# Altium footprint library CRHT_Connectors_PCB.PcbLib: 25 footprints (part 2 of 2)
Each footprint in its own frame and in the unit in brackets; x right, y up, seen from the top. Pads: shape width x height; smd on the part's side, far side on the other; paste and mask are expansions set on the pad; w line width, h text height; cw(c..) or ccw(c..) is an arc to the next point about the centre after c.
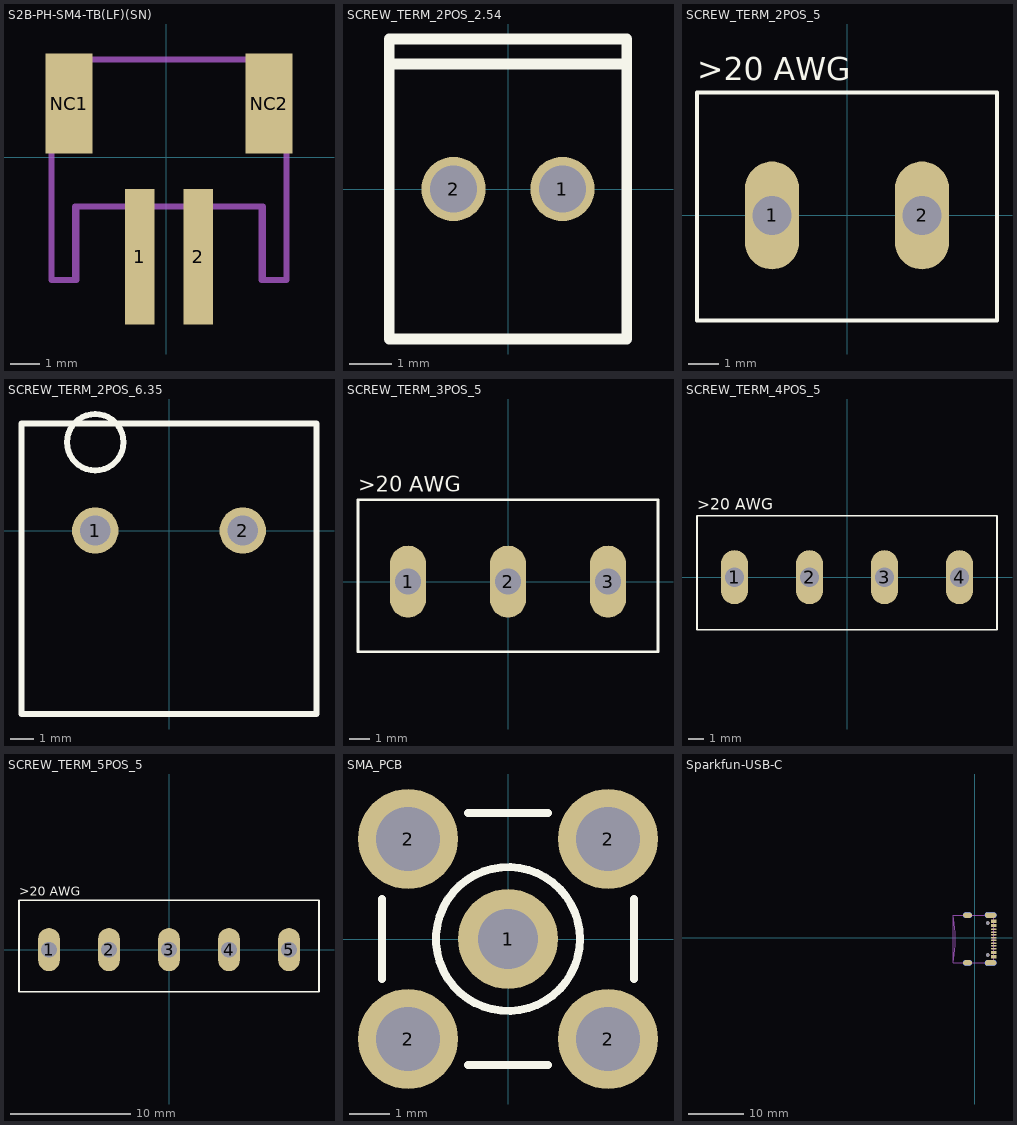
[diagram p1: the footprints below, top view; thin cyan lines are the x and y axes]

## S2B-PH-SM4-TB(LF)(SN) [mm] "JST 2 Position PH series SMT Connector"
pads (4):
  rect 1x4.6 smd: 1(-0.906,-3.386) 2(1.094,-3.386)
  rect 1.6x3.4 smd: NC1(-3.306,1.814) NC2(3.494,1.814)
Mechanical 3:
  lines w0.203: -3.906,-4.186 -3.106,-4.186 -3.106,-1.686 3.294,-1.686 3.294,-4.186 4.094,-4.186 4.094,3.314 -3.906,3.314 -3.906,-4.186
Mechanical 7:
  lines w0.203: -3.906,-0.186 -3.906,-4.186 -3.056,-4.186 -3.056,-1.686 -1.656,-1.686 ; -2.156,3.314 2.344,3.314 ; 1.844,-1.686 3.244,-1.686 3.244,-4.186 4.094,-4.186 4.094,-0.186

## SCREW_TERM_2POS_2.54 [mm] "TERM BLOCK 2POS SIDE ENT 2.54MM - 282834-2"
height 10
pads (2):
  round 1.5 hole 1.1: 1(1.27,0) 2(-1.27,0)
Top Overlay:
  lines w0.254: -2.77,2.921 2.77,2.921 ; -2.77,-3.5 -2.77,3.5 2.77,3.5 2.77,-3.5 -2.77,-3.5
3D body "TERM_2.STEP": height 10, standoff -3.4, extent -2.77,-3.25 2.77,3.25

## SCREW_TERM_2POS_5 [mm]
height 10
pads (2):
  oval 1.8x3.6 hole 1.3: 1(-2.5,0) 2(2.5,0)
Top Overlay:
  lines w0.127: -5,-3.5 -5,4.1 5,4.1 5,-3.5 -5,-3.5
  text ">20 AWG" at -5,4.5 h0.76
3D body: height 12.5, standoff 0, extent -5,-3.5 5,4
3D body: height 0.55, standoff 0, extent -0.5,3.5 -0.5,3.5

## SCREW_TERM_2POS_6.35 [mm] "6.35mm Pitch Screw Terminal"
height 21.5
pads (2):
  round 2 / inner round 4 / far side round 4 hole 1.3: 1(-3.175,0) 2(3.175,0)
Top Overlay:
  circle w0.254: c-3.175,3.8 r1.217
  lines w0.254: -6.345,-7.9 -6.345,4.6 6.345,4.6 6.345,-7.9 -6.345,-7.9
3D body "6.35mm PCB Terminal Block, 2pos.SLDPRT": height 21.49, standoff -5.51, extent -6.35,-7.925 6.96,4.572

## SCREW_TERM_3POS_5 [mm]
height 10
pads (3):
  oval 1.8x3.6 hole 1.3: 1(-5,0) 2(0,0) 3(5,0)
Top Overlay:
  lines w0.127: -7.5,-3.5 7.5,-3.5 7.5,4.1 -7.5,4.1 -7.5,-3.5
  text ">20 AWG" at -7.5,4.5 h0.76
3D body: height 12.5, standoff 0, extent -7.5,-3.5 7.5,4

## SCREW_TERM_4POS_5 [mm]
height 10
pads (4):
  oval 1.8x3.6 hole 1.3: 1(-7.5,0) 2(-2.5,0) 3(2.5,0) 4(7.5,0)
Top Overlay:
  lines w0.127: -10,-3.5 10,-3.5 10,4.1 -10,4.1 -10,-3.5
  text ">20 AWG" at -10,4.5 h0.76
3D body: height 12.5, standoff 0, extent -10,-3.5 10,4

## SCREW_TERM_5POS_5 [mm]
height 10
pads (5):
  oval 1.8x3.6 hole 1.3: 1(-10,0) 2(-5,0) 3(0,0) 4(5,0) 5(10,0)
Top Overlay:
  lines w0.127: -12.5,-3.5 -12.5,4.1 12.5,4.1 12.5,-3.5 -12.5,-3.5
  text ">20 AWG" at -12.5,4.5 h0.76

## SMA_PCB [mm] "Connector; SMB Straight"
pads (5):
  round 2.5 hole 1.5: 1(0,0)
  round 2.5 hole 1.6: 2(-2.5,-2.5) 2(-2.5,2.5) 2(2.5,-2.5) 2(2.5,2.5)
Top Overlay:
  circle w0.2: c0,0 r1.8
  lines w0.2: -3.15,-1 -3.15,1 ; -1,-3.15 1,-3.15 ; -1,3.15 1,3.15 ; 3.15,-1 3.15,1
Mechanical 1:
  circle w0.025: c0,0 r1.8
  circle w0.025: c0,0 r1.05
  circle w0.025: c0,0 r0.2
3D body "CRHT-M000420 Rev01 - SMA Jack, 50ohm.STEP": height 9.99, standoff -3.81, extent -3.175,-3.173 3.175,3.175

## Sparkfun-USB-C [mm]
pads (22):
  rect 1x0.3 smd: A5(3.428,0.981) A6(3.428,-0.019) A7(3.428,-0.519) A8(3.428,-1.519) B5(3.428,-2.019) B6(3.428,-1.019) B7(3.428,0.481) B8(3.428,1.481)
  rect 1x0.6 smd: GND(3.428,2.956) GND2(3.428,-3.494) VBUS1(3.428,2.181) VBUS2(3.428,-2.719)
  round 0.65 hole 0.65 unplated: MH1(2.323,2.621) MH2(2.323,-3.159)
  rrect100% 2.1x1 smd paste+0 mask+0: SHLD1(2.853,4.051) SHLD2(2.853,-4.589)
  rrect100% 2.1x1 smd far side paste+0 mask+0: SHLD3(2.853,4.051) SHLD4(2.853,-4.589)
  rrect100% 1.6x1 smd paste+0 mask+0: SHLD5(-1.327,4.051) SHLD8(-1.327,-4.589)
  rrect100% 1.6x1 smd far side paste+0 mask+0: SHLD6(-1.327,4.051) SHLD7(-1.327,-4.589)
Top Paste:
  region: 2.248,4.551 3.448,4.551 3.542,4.551 3.714,4.48 3.847,4.347 3.918,4.175 3.918,4.081 3.924,3.982 3.859,3.793 3.727,3.644 3.548,3.557 3.448,3.551 2.248,3.551 2.153,3.561 1.984,3.653 1.863,3.802 1.808,3.986 1.818,4.081 1.814,4.171 1.875,4.339 1.996,4.471 2.159,4.547 2.248,4.551 2.161,4.539 2.002,4.464 1.883,4.335 1.823,4.169 1.818,4.081
  region: 2.198,-4.089 3.398,-4.089 3.498,-4.085 3.684,-4.153 3.831,-4.288 3.914,-4.469 3.918,-4.569 3.923,-4.667 3.857,-4.853 3.725,-4.999 3.547,-5.084 3.448,-5.089 2.248,-5.089 2.154,-5.08 1.986,-4.991 1.865,-4.845 1.809,-4.663 1.818,-4.569 1.808,-4.483 1.855,-4.317 1.962,-4.182 2.113,-4.099 2.198,-4.089 2.115,-4.107 1.968,-4.189 1.863,-4.321 1.817,-4.484 1.818,-4.569
  region: -1.682,-4.089 -1.082,-4.089 -0.979,-4.082 -0.785,-4.147 -0.63,-4.282 -0.539,-4.466 -0.532,-4.569 -0.53,-4.67 -0.604,-4.859 -0.745,-5.005 -0.93,-5.087 -1.032,-5.089 -1.632,-5.089 -1.728,-5.092 -1.909,-5.023 -2.049,-4.891 -2.129,-4.715 -2.132,-4.619 -2.14,-4.521 -2.08,-4.335 -1.953,-4.186 -1.779,-4.097 -1.682,-4.089 -1.777,-4.106 -1.947,-4.194 -2.071,-4.34 -2.13,-4.522 -2.132,-4.619
  region: -1.632,4.551 -1.032,4.551 -0.93,4.549 -0.745,4.468 -0.604,4.322 -0.53,4.133 -0.532,4.031 -0.534,3.934 -0.612,3.755 -0.753,3.62 -0.934,3.549 -1.032,3.551 -1.632,3.551 -1.729,3.549 -1.911,3.62 -2.052,3.755 -2.13,3.934 -2.132,4.031 -2.134,4.133 -2.06,4.322 -1.919,4.468 -1.733,4.549 -1.632,4.551 -1.731,4.539 -1.913,4.46 -2.051,4.316 -2.124,4.131 -2.132,4.031
Top Solder:
  region: 2.248,4.651 3.448,4.651 3.563,4.647 3.772,4.551 3.928,4.382 4.008,4.166 4.003,4.051 4.008,3.936 3.928,3.721 3.772,3.552 3.563,3.456 3.448,3.451 2.248,3.451 2.134,3.457 1.928,3.554 1.775,3.723 1.698,3.937 1.703,4.051 1.698,4.165 1.775,4.38 1.928,4.549 2.134,4.646 2.248,4.651 2.137,4.635 1.935,4.54 1.784,4.374 1.709,4.164 1.703,4.051
  region: 2.248,-3.989 3.448,-3.989 3.563,-3.993 3.772,-4.089 3.928,-4.258 4.008,-4.474 4.003,-4.589 4.008,-4.704 3.928,-4.919 3.772,-5.088 3.563,-5.184 3.448,-5.189 2.248,-5.189 2.134,-5.183 1.928,-5.086 1.775,-4.917 1.698,-4.703 1.703,-4.589 1.698,-4.475 1.775,-4.26 1.928,-4.092 2.134,-3.994 2.248,-3.989 2.137,-4.005 1.935,-4.101 1.784,-4.266 1.709,-4.477 1.703,-4.589
  region: -1.632,-3.989 -1.032,-3.989 -0.912,-3.988 -0.69,-4.079 -0.52,-4.248 -0.427,-4.469 -0.427,-4.589 -0.427,-4.709 -0.52,-4.93 -0.69,-5.098 -0.912,-5.189 -1.032,-5.189 -1.632,-5.189 -1.751,-5.188 -1.97,-5.096 -2.137,-4.928 -2.227,-4.708 -2.227,-4.589 -2.227,-4.47 -2.137,-4.25 -1.97,-4.081 -1.751,-3.989 -1.632,-3.989 -1.748,-4.001 -1.963,-4.091 -2.127,-4.256 -2.216,-4.472 -2.227,-4.589
  region: -1.632,4.651 -1.032,4.651 -0.912,4.652 -0.69,4.561 -0.52,4.392 -0.427,4.171 -0.427,4.051 -0.427,3.931 -0.52,3.71 -0.69,3.542 -0.912,3.451 -1.032,3.451 -1.632,3.451 -1.751,3.452 -1.97,3.544 -2.137,3.713 -2.227,3.932 -2.227,4.051 -2.227,4.17 -2.137,4.39 -1.97,4.559 -1.751,4.651 -1.632,4.651 -1.748,4.639 -1.963,4.549 -2.127,4.384 -2.216,4.168 -2.227,4.051
Mechanical 2:
  lines w0.6: -1.632,-4.589 -1.012,-4.589 ; -1.632,4.051 -1.012,4.051 ; 2.303,-4.589 3.403,-4.589 ; 2.303,4.051 3.403,4.051
Mechanical 3:
  region: 3.173,-3.294 3.673,-3.294 3.673,-3.694 3.173,-3.694
  region: 3.173,-2.519 3.673,-2.519 3.673,-2.919 3.173,-2.919
  region: 3.168,-1.919 3.668,-1.919 3.668,-2.119 3.168,-2.119
  region: 3.168,-1.419 3.668,-1.419 3.668,-1.619 3.168,-1.619
  region: 3.173,-0.919 3.673,-0.919 3.673,-1.119 3.173,-1.119
  region: 3.173,-0.419 3.673,-0.419 3.673,-0.619 3.173,-0.619
  region: 3.173,0.081 3.673,0.081 3.673,-0.119 3.173,-0.119
  region: 3.173,0.581 3.673,0.581 3.673,0.381 3.173,0.381
  region: 3.173,1.081 3.673,1.081 3.673,0.881 3.173,0.881
  region: 3.173,1.581 3.673,1.581 3.673,1.381 3.173,1.381
  region: 3.173,2.381 3.673,2.381 3.673,1.981 3.173,1.981
  region: 3.173,3.156 3.673,3.156 3.673,2.756 3.173,2.756
  lines w0.01: -2.127,-4.589 -0.527,-4.589 ; -2.127,4.051 -0.527,4.051 ; -1.627,-5.089 -1.627,-4.089 ; -1.627,3.551 -1.627,4.551 ; -1.327,-5.089 -1.327,-4.089 ; -1.327,3.551 -1.327,4.551 ; -1.027,-5.089 -1.027,-4.089 ; -1.027,3.551 -1.027,4.551 ; 1.803,-4.589 3.423,-4.589 3.903,-4.589 ; 1.803,4.051 3.423,4.051 3.903,4.051 ; 2.253,-5.089 2.253,-4.089 ; 2.253,3.551 2.253,4.551 ; 2.853,-5.089 2.853,-4.089 ; 2.853,3.551 2.853,4.551 ; 3.453,-5.089 3.453,-4.089 ; 3.453,3.551 3.453,4.551
  lines w0.152: -3.932,-4.589 ccw(c-26.924,-0.269) -3.932,4.051 ; -3.927,-4.589 -3.927,4.051 3.423,4.051 3.423,-4.589 -3.927,-4.589
Mechanical 4:
  lines w0.01: -1.927,-4.589 -0.727,-4.589 ; -1.927,4.051 -0.727,4.051 ; -1.327,-4.889 -1.327,-4.289 ; -1.327,3.751 -1.327,4.351 ; 2.003,-4.589 3.703,-4.589 ; 2.003,4.051 3.703,4.051 ; 2.853,-4.889 2.853,-4.289 ; 2.853,3.751 2.853,4.351
Mechanical 7:
  lines w0.203: -0.232,-4.589 1.568,-4.589 ; -0.232,4.051 1.568,4.051
3D body: height 3.81, standoff 0, extent -2.132,4.046 -0.521,4.057
3D body: height 3.81, standoff 0, extent -1.332,3.546 -1.321,4.557
3D body: height 3.81, standoff 0, extent -1.632,3.546 -1.621,4.557
3D body: height 3.81, standoff 0, extent -1.032,3.546 -1.021,4.557
3D body: height 3.81, standoff 0, extent 2.848,3.546 2.859,4.557
3D body: height 3.81, standoff 0, extent 2.248,3.546 2.258,4.557
3D body: height 3.81, standoff 0, extent 3.448,3.546 3.459,4.557
3D body: height 3.81, standoff 0, extent -2.132,-4.594 -0.521,-4.583
3D body: height 3.81, standoff 0, extent -1.332,-5.094 -1.321,-4.083
3D body: height 3.81, standoff 0, extent -1.632,-5.094 -1.621,-4.083
3D body: height 3.81, standoff 0, extent -1.032,-5.094 -1.021,-4.083
3D body: height 3.81, standoff 0, extent 2.848,-5.094 2.859,-4.083
3D body: height 3.81, standoff 0, extent 2.248,-5.094 2.258,-4.083
3D body: height 3.81, standoff 0, extent 3.448,-5.094 3.459,-4.083
3D body: height 3.81, standoff 0, extent 3.418,4.046 3.909,4.057
3D body: height 3.81, standoff 0, extent 1.798,4.046 3.429,4.057
3D body: height 3.81, standoff 0, extent 3.418,-4.594 3.909,-4.583
3D body: height 3.81, standoff 0, extent 1.798,-4.594 3.429,-4.583
3D body: height 3.81, standoff 0, extent -4.009,-4.671 -3.844,4.134
3D body: height 3.81, standoff 0, extent -4.009,3.969 3.506,4.134
3D body: height 3.81, standoff 0, extent 3.341,-4.671 3.506,4.134
3D body: height 3.81, standoff 0, extent -4.009,-4.671 3.506,-4.506
3D body: height 3.81, standoff 0, extent -4.014,-4.671 -3.441,4.134
3D body: height 3.81, standoff 0, extent 3.173,-3.694 3.673,-3.294
3D body: height 3.81, standoff 0, extent 3.173,-2.919 3.673,-2.519
3D body: height 3.81, standoff 0, extent 3.168,-2.119 3.668,-1.919
3D body: height 3.81, standoff 0, extent 3.168,-1.619 3.668,-1.419
3D body: height 3.81, standoff 0, extent 3.173,-1.119 3.673,-0.919
3D body: height 3.81, standoff 0, extent 3.173,-0.619 3.673,-0.419
3D body: height 3.81, standoff 0, extent 3.173,-0.119 3.673,0.081
3D body: height 3.81, standoff 0, extent 3.173,0.381 3.673,0.581
3D body: height 3.81, standoff 0, extent 3.173,0.881 3.673,1.081
3D body: height 3.81, standoff 0, extent 3.173,1.381 3.673,1.581
3D body: height 3.81, standoff 0, extent 3.173,1.981 3.673,2.381
3D body: height 3.81, standoff 0, extent 3.173,2.756 3.673,3.156
3D body: height 3.81, standoff 0, extent 1.808,3.551 3.924,4.551
3D body: height 3.81, standoff 0, extent 1.808,-5.089 3.923,-4.085
3D body: height 3.81, standoff 0, extent -2.14,-5.092 -0.53,-4.082
3D body: height 3.81, standoff 0, extent -2.134,3.549 -0.53,4.551
3D body: height 3.81, standoff 0, extent 1.698,3.451 4.008,4.651
3D body: height 3.81, standoff 0, extent 1.698,-5.189 4.008,-3.989
3D body: height 3.81, standoff 0, extent -2.227,-5.189 -0.427,-3.988
3D body: height 3.81, standoff 0, extent -2.227,3.451 -0.427,4.652
3D body: height 1.27, standoff 0, extent 2.928,-1.169 3.928,-0.869
3D body: height 1.27, standoff 0, extent 2.928,-0.669 3.928,-0.369
3D body: height 1.27, standoff 0, extent 2.928,-3.794 3.928,-3.194
3D body: height 1.27, standoff 0, extent 2.928,-3.019 3.928,-2.419
3D body: height 1.27, standoff 0, extent 2.928,-2.169 3.928,-1.869
3D body: height 1.27, standoff 0, extent 2.928,-1.669 3.928,-1.369
3D body: height 1.27, standoff 0, extent 2.928,0.331 3.928,0.631
3D body: height 1.27, standoff 0, extent 2.928,-0.169 3.928,0.131
3D body: height 1.27, standoff 0, extent 2.928,2.656 3.928,3.256
3D body: height 1.27, standoff 0, extent 2.928,1.881 3.928,2.481
3D body: height 1.27, standoff 0, extent 2.928,1.331 3.928,1.631
3D body: height 1.27, standoff 0, extent 2.928,0.831 3.928,1.131
3D body: height 1.27, standoff 0, extent 1.793,3.541 3.913,4.561
3D body: height 1.27, standoff 0, extent 1.793,-5.099 3.913,-4.079
3D body: height 1.27, standoff 0, extent 1.793,3.541 3.913,4.561
3D body: height 1.27, standoff 0, extent 1.793,-5.099 3.913,-4.079
3D body: height 1.27, standoff 0, extent -2.137,3.541 -0.517,4.561
3D body: height 1.27, standoff 0, extent -2.137,3.541 -0.517,4.561
3D body: height 1.27, standoff 0, extent -2.137,-5.099 -0.517,-4.079
3D body: height 1.27, standoff 0, extent -2.137,-5.099 -0.517,-4.079
3D body: height 1.27, standoff 0, extent 1.992,2.29 2.655,2.953
3D body: height 1.27, standoff 0, extent 1.992,-3.49 2.655,-2.827